# Altium footprint library LM3485MM_NOPB.PcbLib: 1 footprints
Each footprint in its own frame and in the unit in brackets; x right, y up, seen from the top. Pads: shape width x height; smd on the part's side, far side on the other; paste and mask are expansions set on the pad; w line width, h text height; cw(c..) or ccw(c..) is an arc to the next point about the centre after c.
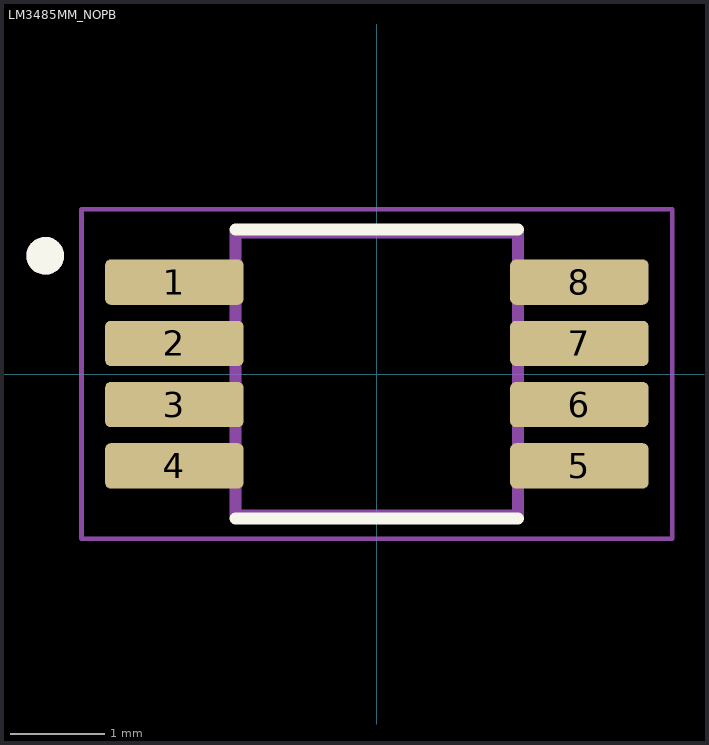
[diagram p0: the footprint, top view; thin cyan lines are the x and y axes]

## LM3485MM_NOPB [mm]
pads (8):
  rrect25% 1.47x0.48 smd mask+0.076: 1(-2.15,0.975) 2(-2.15,0.325) 3(-2.15,-0.325) 4(-2.15,-0.975) 5(2.15,-0.975) 6(2.15,-0.325) 7(2.15,0.325) 8(2.15,0.975)
Top Overlay:
  circle w0.2: c-3.52,1.255 r0.1
  lines w0.127: -1.5,-1.535 1.5,-1.535 ; -1.5,1.535 1.5,1.535
Mechanical 13:
  circle w0.2: c-3.52,1.255 r0.1
  lines w0.127: -1.5,-1.5 -1.5,1.5 1.5,1.5 1.5,-1.5 -1.5,-1.5
Mechanical 15:
  lines w0.05: -3.135,-1.75 -3.135,1.75 3.135,1.75 3.135,-1.75 -3.135,-1.75
3D body "LM3485MM_NOPB.STEP": height 1.1, standoff 0, extent -2.45,-1.5 2.45,1.5